# EAGLE library part KMX63-1055 (library TrackerPeripherals)
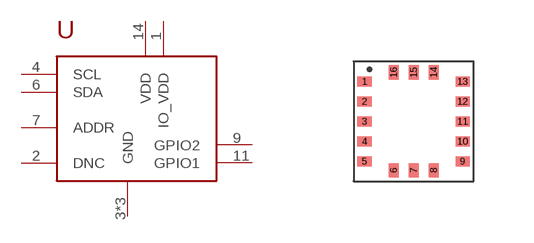
[diagram p7: symbol with the pads of LGA16_3X3; footprint LGA16_3X3]

Designator prefix U

## KMX63-1055  [LGA16_3X3]
1  IO_VDD
2  DNC
3  GND
4  SCL
5  GND
6  SDA
7  ADDR
9  GPIO2
11  GPIO1
12  GND
14  VDD

## Footprint LGA16_3X3 (pad centres in mm)
smd 0.35 x 0.25: 1 -1.225,1; 2 -1.225,0.5; 3 -1.225,0; 4 -1.225,-0.5; 5 -1.225,-1; 9 1.225,-1; 10 1.225,-0.5; 11 1.225,0; 12 1.225,0.5; 13 1.225,1
smd 0.25 x 0.35: 6 -0.5,-1.225; 7 0,-1.225; 8 0.5,-1.225; 14 0.5,1.225; 15 0,1.225; 16 -0.5,1.225